# Altium schematic symbol library ADCs.SchLib: 1 symbol
Pins are listed as number, name and electrical type; pins without a type are passive.

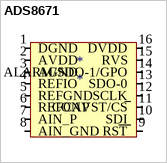
[diagram p0: symbol ADS8671]

## ADS8671
designator *
14-Bit, High-Speed, Single Supply, SAR ADC Data Acq. System with progr., bipolar input ranges
footprint ADS8671 (14-Bit, High-Speed, Single Supply, SAR ADC Data Acq. System with progr., bipolar input ranges)
pins: 1 DGND, 2 AVDD, 3 AGND, 4 REFIO, 5 REFGND, 6 REFCAP, 7 AIN_P, 8 AIN_GND, 9 RST, 10 SDI, 11 CONVST/CS, 12 SCLK, 13 SDO-0, 14 ALARM/SDO-1/GPO, 15 RVS, 16 DVDD